# EAGLE library part SN74HC4066PWR (library john_mamish_assorted_analog_library)
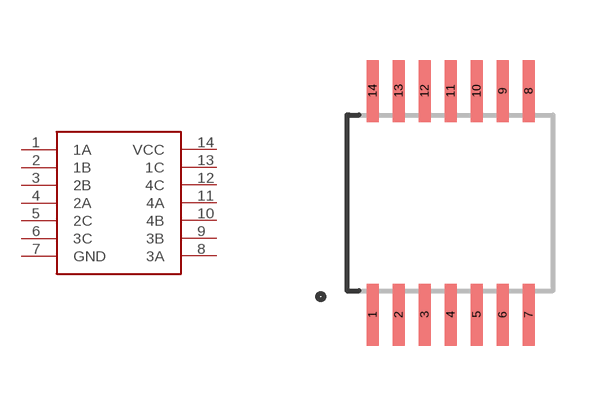
[diagram p1: symbol with the pads of TI_TSSOP_14; footprint TI_TSSOP_14]

Designator prefix -

## SN74HC4066PWR  [TI_TSSOP_14]
1  1A
2  1B
3  2B
4  2A
5  2C
6  3C
7  GND
8  3A
9  3B
10  4B
11  4A
12  4C
13  1C
14  VCC

## Footprint TI_TSSOP_14 (pad centres in mm)
smd 0.3 x 1.55: 1 0,-5.6; 2 0.65,-5.6; 3 1.3,-5.6; 4 1.95,-5.6; 5 2.6,-5.6; 6 3.25,-5.6; 7 3.9,-5.6; 8 3.9,0; 9 3.25,0; 10 2.6,0; 11 1.95,0; 12 1.3,0; 13 0.65,0; 14 0,0